# Altium footprint library JST-XH TH 2.5mm 2-pos.PcbLib: 1 footprints
Each footprint in its own frame and in the unit in brackets; x right, y up, seen from the top. Pads: shape width x height; smd on the part's side, far side on the other; paste and mask are expansions set on the pad; w line width, h text height; cw(c..) or ccw(c..) is an arc to the next point about the centre after c.
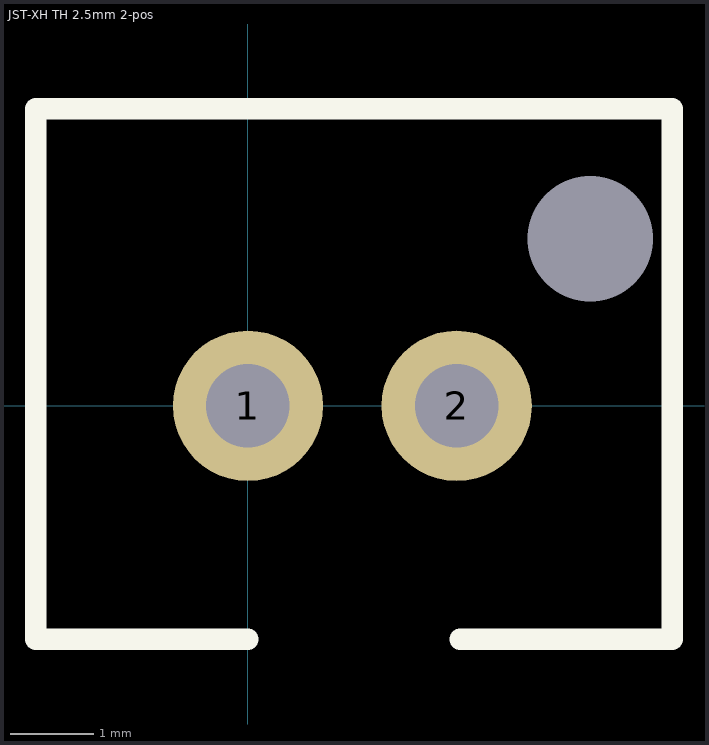
[diagram p0: the footprint, top view; thin cyan lines are the x and y axes]

## JST-XH TH 2.5mm 2-pos [mm]
pads (3):
  round 1.8 hole 1: 1(0,0) 2(2.5,0)
  round 0 hole 1.5 unplated: 1(4.1,2)
Top Overlay:
  lines w0.254: 0,-2.794 -2.54,-2.794 -2.54,3.556 5.08,3.556 5.08,-2.794 2.54,-2.794
3D body "JST - XH - Thru - 2Pin - 2.5mm (Genuine).stp": height 7.21, standoff -3, extent -2.317,-2.489 4.857,3.353